# Altium integrated library PD_SMARTKEY_EMN-EVAN_V2.0.IntLib: 50 symbols
Pins are listed as number, name and electrical type; pins without a type are passive.

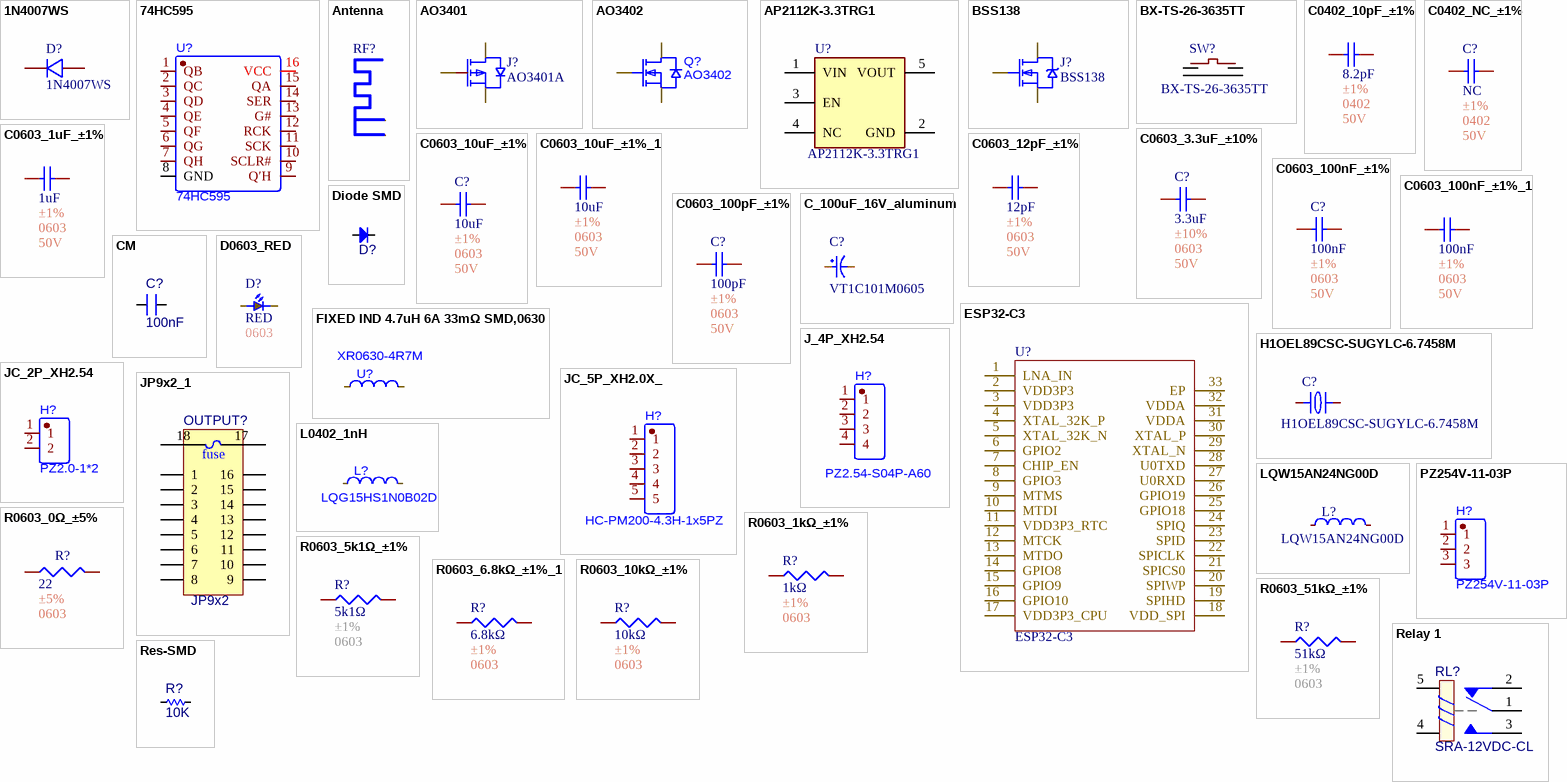
[diagram p0: symbols 1N4007WS to Res-SMD]

## 1N4007WS
designator D?
DIODE STANDARD 1kV 1A SOD-323; Manufacturer: MDD(Microdiode Semiconductor); Mfr. Part #: 1N4007WS; LCSC Part #: C193404; Package: SOD-323; Link: https://www.lcsc.com/product-detail/C193404.html?utm_source=chatgpt.com
footprint 1N4007WS (DIODE STANDARD 1kV 1A SOD-323)
pins: 1 K, 2 A

## 74HC595
designator U?
8-bit CMOS shift register; Manufacturer: GR; MPN: 74HC595; LCSC Part #: C18164493; Packaging: SOP-16; Link: https://www.lcsc.com/product-detail/C18164493.html?s_z=n_q_x_74hc595&spm=wm.ssy.em.0.tz&lcsc_vid=FlRcBlcDRFNZAlJQT1RZBVJSEVFcX11eRVQPBFEHFgAxVlNeQVReV1NeQFVfUzsOAxUeFF5JWBYZEEoKFBINSQcJGk4%3D
footprint 74HC595 (8-bit CMOS shift register)
pins: 1 QB, 2 QC, 3 QD, 4 QE, 5 QF, 6 QG, 7 QH, 8 GND, 9 Q′H, 10 SCLR#, 11 SCK, 12 RCK, 13 G#, 14 SER, 15 QA, 16 VCC

## Antenna
designator RF?
footprint 2.4GHZ-50OHMS_v1.1
pins: 1, 2

## AO3401
designator J?, comment AO3401A
30V 4A 900mV@250uA 1 P-Channel SOT-23 MOSFETs ROHS; Manufacturer: AOS; Mfr. Part #: AO3401A; LCSC Part #: C15127; Package: SOT-23; Current - Continuous Drain(Id): 4A; Drain to Source Voltage: 30V; Link: https://www.lcsc.com/product-detail/C15127.html?s_z=n_AO3401
footprint AO3401
pins: 1 G, 1 G, 1 G, 1 G, 1 G, 1 G, 1 G, 1 G, 1 G, 1 G, 1 G, 1 G, 1 G, 1 G, 1 G, 1 G, 2 S, 2 S, 2 S, 2 S, 2 S, 2 S, 2 S, 2 S, 2 S, 2 S, 2 S, 2 S, 2 S, 2 S, 2 S, 2 S, 3 D, 3 D, 3 D, 3 D, 3 D, 3 D, 3 D, 3 D, 3 D, 3 D, 3 D, 3 D, 3 D, 3 D, 3 D, 3 D

## AO3402
designator Q?
MOSFET N-CH 30V SOT-23; Manufacturer: AOS; MPN: AO3402; LCSC Part #: C14385; Packaging: SOT-23; Link: https://www.lcsc.com/product-detail/C14385.html?s_z=n_q_ao3402&spm=wm.fly.bg.0.xh&lcsc_vid=FFlaVlZURFlbX1EAE1lbUlZfQwdeBlBRQ1VZBFdQQwUxVlNeRVZXVF1QQ1BYXzsOAxUeFF5JWBYZEEoKFBINSQcJGk4NBhADEA4cHktXR1FWSQwSGg0%3D
footprint AO3402 (MOSFET N-CH 30V SOT-23)
pins: 1 G, 1 G, 1 G, 1 G, 2 S, 2 S, 2 S, 2 S, 3 D, 3 D, 3 D, 3 D

## AP2112K-3.3TRG1
designator U?
Linear Voltage Regulator IC Positive Fixed 1 Output 600mA SOT23-5; MF: Diodes Inc.; Value: *; Purchase-URL: https://pricing.snapeda.com/search/part/AP2112K-3.3TRG1/?ref=eda; Package: SOT-753 Diodes Inc.; Availability: In Stock; Check_prices: https://www.snapeda.com/parts/AP2112K-3.3TRG1/Diodes+Inc./view-part/?ref=eda; Price: None; SnapEDA_Link: https://www.snapeda.com/parts/AP2112K-3.3TRG1/Diodes+Inc./view-part/?ref=snap; MP: AP2112K-3.3TRG1
footprint SOT23-5 (SOT23, 5-Leads, Body 3.0x3.0mm (max), Pitch 0.95mm, IPC Medium Density)
pins: 1 VIN (power), 2 GND (power), 3 EN, 4 NC, 5 VOUT (power)

## BSS138
designator J?
MOSFET N-CH 50V 0.22A SOT-23; Manufacturer: onsemi; Mfr. Part #: BSS138; LCSC Part #: C52895; Package: SOT-23; Link: https://www.lcsc.com/product-detail/C52895.html?s_z=n_q_x_bss138&spm=wm.ssy.em.0.tz&lcsc_vid=FFlaVlZURFlbX1EAE1lbUlZfQwdeBlBRQ1VZBFdQQwUxVlNeQlVeVVZeQlBWUTsOAxUeFF5JWBYZEEoKFBINSQcJGk4eFQsCAgIaSgADAwAHC0slTlBeX1dIHxUDCw%3D%3D
footprint BSS138 (MOSFET N-CH 50V 0.22A SOT-23)
pins: 1 G, 2 S, 3 D

## BX-TS-26-3635TT
designator SW?
Without bracket 50mA 3.6mm 100000 Times 260gf 12V 3.5mm 3.5mm Rectangle button Standing paste SPST SMD,3x6mm Tactile Switches ROHS; Manufacturer: Bossie; Manufacture Part Number: C18078107; Packaging: Cut Tape; Link: https://www.lcsc.com/product-detail/Tactile-Switches_Bossie-BX-TS-26-3635TT_C18078107.html?s_z=n_tactile; Package: SMD,3x6mm
footprint BX-TS-26-3635TT
pins: 1, 1, 1, 1, 1, 1, 1, 1, 1, 1, 1, 1, 1, 1, 1, 1, 1, 1, 1, 1, 1, 1, 1, 1, 1, 1, 1, 1, 1, 1, 1, 1, 2, 2, 2, 2, 2, 2, 2, 2, 2, 2, 2, 2, 2, 2, 2, 2, 2, 2, 2, 2, 2, 2, 2, 2, 2, 2, 2, 2, 2, 2, 2, 2, 3, 3, 3, 3, 3, 3, 3, 3, 3, 3, 3, 3, 3, 3, 3, 3, 3, 3, 3, 3, 3, 3, 3, 3, 3, 3, 3, 3, 3, 3, 3, 3, 4, 4, 4, 4, 4, 4, 4, 4, 4, 4, 4, 4, 4, 4, 4, 4, 4, 4, 4, 4, 4, 4, 4, 4, 4, 4, 4, 4, 4, 4, 4, 4

## C0402_10pF_±1%
designator C?, comment 8.2pF  Tolerance: ±1%  Package: 0402  Voltage Rating: 50V
50V 10pF NP0 ±1% 0402 Multilayer Ceramic Capacitors MLCC - SMD/SMT ROHS; Manufacturer: YAGEO; Mfr. Part #: CC0402FRNPO9BN100; LCSC Part #: C513681; Link: https://www.lcsc.com/product-detail/C513681.html?s_z=n_capital%2520yageo%252010pF%25200402; Capacitance: 10pF
footprint C0402
pins: 1, 2

## C0402_NC_±1%
designator C?, comment NC  Tolerance: ±1%  Package: 0402  Voltage Rating: 50V
Manufacturer: YAGEO; Mfr. Part #: CC0402FRNPO9BN100; Capacitance: 1uF; LCSC Part #: C513681; Link: https://www.lcsc.com/product-detail/C513681.html?s_z=n_capital%2520yageo%252010pF%25200402
footprint C0402
pins: 1, 2

## C0603_1uF_±1%
designator C?, comment 1uF  Tolerance: ±1%  Package: 0603  Voltage Rating: 50V
50V 10pF NP0 ±1% 0402 Multilayer Ceramic Capacitors MLCC - SMD/SMT ROHS; Manufacturer: YAGEO; Mfr. Part #: CC0402FRNPO9BN100; LCSC Part #: C513681; Link: https://www.lcsc.com/product-detail/C513681.html?s_z=n_capital%2520yageo%252010pF%25200402; Capacitance: 1uF
footprint Model Name (Model Description)
footprint C0603
pins: 1, 2

## C0603_3.3uF_±10%
designator C?, comment 3.3uF  Tolerance: ±10%  Package: 0603  Voltage Rating: 50V
Manufacturer: muRata; Mfr. Part #: GCJ188C70J335KE02D; Temperature Coefficient: X7S; LCSC Part #: C710616; Link: https://www.lcsc.com/product-detail/C710616.html?s_z=n_Capita%25200603%25203.3uF%2520yageo; Capacitance: 3.3uF
footprint C0603
pins: 1, 2

## C0603_10uF_±1%
designator C?, comment 10uF  Tolerance: ±1%  Package: 0603  Voltage Rating: 50V
Manufacturer: YAGEO; Mfr. Part #: CC0402FRNPO9BN100; LCSC Part #: C513681; Link: https://www.lcsc.com/product-detail/C513681.html?s_z=n_capital%2520yageo%252010pF%25200402; Capacitance: 10uF
footprint C0603
pins: 1, 2

## C0603_10uF_±1%_1
designator C?, comment 10uF  Tolerance: ±1%  Package: 0603  Voltage Rating: 50V
50V 10pF NP0 ±1% 0402 Multilayer Ceramic Capacitors MLCC - SMD/SMT ROHS; Manufacturer: YAGEO; Mfr. Part #: CC0402FRNPO9BN100; LCSC Part #: C513681; Link: https://www.lcsc.com/product-detail/C513681.html?s_z=n_capital%2520yageo%252010pF%25200402; Capacitance: 10uF
footprint C0603
pins: 1, 2

## C0603_12pF_±1%
designator C?, comment 12pF  Tolerance: ±1%  Package: 0603  Voltage Rating: 50V
50V 10pF NP0 ±1% 0402 Multilayer Ceramic Capacitors MLCC - SMD/SMT ROHS; Manufacturer: YAGEO; Mfr. Part #: CC0402FRNPO9BN100; LCSC Part #: C513681; Link: https://www.lcsc.com/product-detail/C513681.html?s_z=n_capital%2520yageo%252010pF%25200402; Capacitance: 12pF
footprint C0603
pins: 1, 2

## C0603_100nF_±1%
designator C?, comment 100nF  Tolerance: ±1%  Package: 0603  Voltage Rating: 50V
Manufacturer: YAGEO; Mfr. Part #: CC0402FRNPO9BN100; LCSC Part #: C513681; Link: https://www.lcsc.com/product-detail/C513681.html?s_z=n_capital%2520yageo%252010pF%25200402; Capacitance: 100nF
footprint C0603
pins: 1, 2

## C0603_100nF_±1%_1
designator C?, comment 100nF  Tolerance: ±1%  Package: 0603  Voltage Rating: 50V
50V 10pF NP0 ±1% 0402 Multilayer Ceramic Capacitors MLCC - SMD/SMT ROHS; Manufacturer: YAGEO; Mfr. Part #: CC0402FRNPO9BN100; LCSC Part #: C513681; Link: https://www.lcsc.com/product-detail/C513681.html?s_z=n_capital%2520yageo%252010pF%25200402; Capacitance: 100nF
footprint C0603
pins: 1, 2

## C0603_100pF_±1%
designator C?, comment 100pF  Tolerance: ±1%  Package: 0603  Voltage Rating: 50V
Manufacturer: YAGEO; Mfr. Part #: CC0402FRNPO9BN100; LCSC Part #: C513681; Link: https://www.lcsc.com/product-detail/C513681.html?s_z=n_capital%2520yageo%252010pF%25200402; Capacitance: 100pF
footprint C0603
pins: 1, 2

## C_100uF_16V_aluminum
designator C?, comment VT1C101M0605
100uF 16V ±20% 63mA@120Hz SMD,D6.3xL5.4mm Aluminum Electrolytic Capacitors RoHS; Manufacturer: ROQANG; Key Attributes: CAP ALUM 100uF ±20% 16V SMD; Mfr. Part #: VT1C101M0605; LCSC Part #: C90273; Package: SMD,D6.3xL5.4mm; Link: https://www.lcsc.com/product-detail/C90273.html?s_z=n_capital%2520100uf%2520aluminum
footprint C_100uF_16V_Aluminum (100uF 16V ±20% 63mA@120Hz SMD,D6.3xL5.4mm Aluminum Electrolytic Capacitors RoHS)
pins: 1, 2

## CM
designator C?, comment 100nF
Cap SMD; Value: 103
footprint SM-0805 (Compoment SMD 80x50mil)
footprint C-0603 (Chip Capacitor; Body 1.6 x 0.8 mm (LxW typ))
footprint CAP-1206
footprint CAP-0402
pins: 1, 2

## D0603_RED
designator D?, comment RED  Package: 0603
25mcd~40mcd Water Clear -40℃~+85℃ 624nm Red 120° 60mW 0402 LED Indication - Discrete ROHS; Manufacturer: XINGLIGHT; Mfr. Part #: XL-1005UGC; Voltage - Forward(Vf): 3V; LCSC Part #: C965793; Power(Watts): 60mW; Link: https://www.lcsc.com/product-detail/C136765.html?s_z=n_LED%25200402%2520RED; Illumination Color: RED
footprint LED0603
pins: 1, 2

## Diode SMD
designator D?, comment 1N5819  (value not drawn)
Default Diode; Code - JEDEC: DO-214-AB; Value: 1N5007; Published: 8-Jun-2000; Revision: July-2002: Re-released for DXP Platform.; Publisher: Altium Limited
footprint DIO-SMD-106
footprint DIO-SMD-123
footprint DIO-SMD-A
footprint DIO-SMD-B (Magnetic-Core Inductor with Winding Polarity Marking; 2 Leads)
footprint DIO-SMD-216AA (DO216AA ST-MITE)
footprint DIO-SMD-222AA (DO216AA ST-MITE)
footprint DO-214AA
footprint SOD-323
footprint SOD-123
pins: 1 A, 2 K

## ESP32-C3
designator U?
Others 160MHz QFN-32-EP(5x5) RF Transceiver Modules and Modems RoHS; Manufacturer: ESPRESSIF; LCSC Part #: C2838500; Package: QFN-32-EP(5x5); Link: https://www.lcsc.com/product-detail/C2838500.html?s_z=n_ESP32%2520C3; MPN: ESP32-C3
footprint ESP32-C3 (Others 160MHz QFN-32-EP(5x5) RF Transceiver Modules and Modems RoHS)
pins: 1 LNA_IN, 2 VDD3P3, 3 VDD3P3, 4 XTAL_32K_P, 5 XTAL_32K_N, 6 GPIO2, 7 CHIP_EN, 8 GPIO3, 9 MTMS, 10 MTDI, 11 VDD3P3_RTC, 12 MTCK, 13 MTDO, 14 GPIO8, 15 GPIO9, 16 GPIO10, 17 VDD3P3_CPU, 18 VDD_SPI, 19 SPIHD, 20 SPIWP, 21 SPICS0, 22 SPICLK, 23 SPID, 24 SPIQ, 25 GPIO18, 26 GPIO19, 27 U0RXD, 28 U0TXD, 29 XTAL_N, 30 XTAL_P, 31 VDDA, 32 VDDA, 33 EP

## FIXED IND 4.7uH 6A 33mΩ SMD,0630
designator U?, comment XR0630-4R7M
FIXED IND 4.7uH 6A 33mΩ SMD,0630; Manufacturer: XR; MPN: XR0630-4R7M; LCSC Part #: C5307631; Packaging: SMD,7x6.6mm; Link: https://www.lcsc.com/product-detail/C5307631.html?s_z=n_q_t_INDUCTOR%25200630&spm=wm.fly.bg.0.xh___wm.ssy.tc.0.tz&lcsc_vid=FFlaVlZURFlbX1EAE1lbUlZfQwdeBlBRQ1VZBFdQQwUxVlNeRlRfU1ZRQlNZXzsOAxUeFF5JWBYZEEoKFBINSQcJGk4eFQsCAgIaSgADAwAHC0slQ1ZXV1NWWQkaCgg%3D
footprint SMD,7x6.6mm (FIXED IND 4.7uH 6A 33mO SMD,0630)
pins: 1 S, 2 F

## H1OEL89CSC-SUGYLC-6.7458M
designator C?
CRYSTAL 6.7458MHz 20pF TH; Manufacturer: YXC Crystal Oscillators; Mfr. Part #: H1OEL89CSC-SUGYLC-6.7458M; LCSC Part #: C22391840; Package: HC-49S; Link: https://easyeda.com/editor#libs=&07310eedce5a43c98c4161eafcc9aef0|!a5e1c98a3bb64075832f1f5ba4fc3881,id=!7d444265956f4181be11c4ee9d4cfc6d|!71450838f2174409b429143f6acc9d2a|!539cb70c4f7e477780d20a73162bc53c|!a801549ddf8f431796761cd071417387|!b8fcc2de93bf4aef8189d3c834354c07|!02e7df449347415b8f27e40b853d91f5|!742b0369488b44bb9df5543ea16c4b6c|!89f5280378144b629de4998ef974b6b8|!3adce28ecd244395892921b5df4468bb|!1fe0adc377c7472ba321d68db1c050fa|!1ad015d88caa41fba3ca35598852b904; Load Capacitance: 20pF
footprint H1OEL89CSC-SUGYLC-6.7458M (CRYSTAL 6.7458MHz 20pF TH)
pins: 1, 2

## J_4P_XH2.54
designator H?, comment PZ2.54-S04P-A60
1kV 1 2.54mm Pin Header 3A 2.5mm Through Hole 6mm -40℃~+105℃ 3mm Gold 4P Black 1x4P Through Hole,P=2.54mm Headers, Male Pins RoHS; Manufacturer: JXTCONN; MPN: PZ2.54-S04P-A60; LCSC Part #: C42431795; Packaging: Through Hole,P=2.54mm; Link: https://www.lcsc.com/product-detail/C42431795.html?s_z=n_q_t_header%25204%2520p&spm=wm.fly.bg.0.xh___wm.ssy.tc.0.tz&lcsc_vid=FlRcBlcDRFNZAlJQT1RZBVJSEVFcX11eRVQPBFEHFgAxVlNeQVVcV1RRRlFeUzsOAxUeFF5JWBYZEEoKFBINSQcJGk4dAgUUFAk%3D
footprint J_4P_XH2.54 (1kV 1 2.54mm Pin Header 3A 2.5mm Through Hole 6mm -40?~+105? 3mm Gold 4P Black 1x4P Through Hole,P=2.54mm Headers, Male Pins RoHS)
pins: 1, 2, 3, 4

## JC_2P_XH2.54
designator H?, comment PZ2.0-1*2
CONN HEADER 2POS 2mm SINGLE ROW TH; Manufacturer: ZHOURI; MPN: PZ2.0-1*2; LCSC Part #: C5224022; Packaging: Through Hole,P=2mm; Link: https://www.lcsc.com/product-detail/C5224022.html?utm_source=chatgpt.com
footprint JC_2P_XH2.0 (CONN HEADER 2POS 2mm SINGLE ROW TH)
pins: 1, 2

## JC_5P_XH2.0X_
designator H?, comment HC-PM200-4.3H-1x5PZ
CONN SOCKET 5POS 2mm SINGLE ROW TH; Manufacturer: Hong Cheng; MPN: HC-PM200-4.3H-1x5PZ; LCSC Part #: C22436139; Packaging: Through Hole,P=2mm; Link: https://www.lcsc.com/product-detail/C22436139.html?utm_source=chatgpt.com
footprint JC_5P_XH2.0 (CONN SOCKET 5POS 2mm SINGLE ROW TH)
pins: 1, 2, 3, 4, 5

## JP9x2_1
designator OUTPUT?, comment JP9x2
WR-PHD 2.54 mm Dual Socket Header; Manufacturer: W¨¹rth Elektronik eiSos GmbH; partNo: 61301821821; ComponentLink1 Description: Manufacturer; ComponentLink2 Description: Datasheet; NoPins: 18; Created Date: 29 March 2013; ComponentLink1URL: http://www.we-online.com; ComponentLink2URL: http://katalog.we-online.de/em/datasheet/6130xx21821.pdf; Created by: Karrer Zheng
footprint 9x2_JP200
pins: 1, 2, 3, 4, 5, 6, 7, 8, 9, 10, 11, 12, 13, 14, 15, 16, 17, 18
text: fuse

## L0402_1nH
designator L?, comment LQG15HS1N0B02D
FIXED IND 1nH 1A 70mΩ 0402; Manufacturer: muRata; MPN: LQG15HS1N0B02D; LCSC Part #: C162538; Packaging: 0402; Link: https://www.lcsc.com/product-detail/C162538.html?s_z=n_q_0402%2520inductor%25201nH&spm=wm.fly.bg.1.xh&lcsc_vid=FFlaVlZURFlbX1EAE1lbUlZfQwdeBlBRQ1VZBFdQQwUxVlNeQ1FfVlBVRFlZVjsOAxUeFF5JWBYZEEoKFBINSQcJGk4NBhADEA4cHktXRllfSQwSGg0%3D
footprint L0402_1nH (FIXED IND 1nH 1A 70mO 0402)
pins: 1, 2

## LQW15AN24NG00D
designator L?
FIXED IND 24nH 280mA 520mΩ 0402; Manufacturer: muRata; Mfr. Part #: LQW15AN24NG00D; LCSC Part #: C167472; Package: 0402; Link: https://www.lcsc.com/product-detail/C167472.html?s_z=n_q_inductor%252024nH%25200402&spm=wm.fly.bg.0.xh&lcsc_vid=FlRcBlcDRFNZAlJQT1RZBVJSEVFcX11eRVQPBFEHFgAxVlNeQVRfUFJVQVNZUzsOAxUeFF5JWBYZEEoKFBINSQcJGk4eFQsCAgIaSgADAwAHC0slRlhdU1RSWQkaCgg%3D
footprint LQW15AN24NG00D (FIXED IND 24nH 280mA 520mO 0402)
pins: 1, 2

## PZ254V-11-03P
designator H?
CONN HEADER 3POS 2.54mm SINGLE ROW TH; Manufacturer: XFCN; MPN: PZ254V-11-03P; LCSC Part #: C2937625; Packaging: Through Hole,P=2.54mm; Link: https://www.lcsc.com/product-detail/C2937625.html?s_z=n_q_t_header%25203%2520Position&spm=wm.fly.bg.3.xh___wm.ssy.tc.0.tz&lcsc_vid=FlRcBlcDRFNZAlJQT1RZBVJSEVFcX11eRVQPBFEHFgAxVlNeQVVaV1BSRFVfXjsOAxUeFF5JWBYZEEoKFBINSQcJGk4dAgUUFAk%3D
footprint PZ254V-11-03P (CONN HEADER 3POS 2.54mm SINGLE ROW TH)
pins: 1, 2, 3

## R0603_0Ω_±5%
designator R?, comment 22  Tolerance: ±5%  Package: 0603
100mW Thick Film Resistor 75V ±5% 0Ω 0603 Chip Resistor - Surface Mount ROHS; Manufacturer: YAGEO; Mfr. Part #: RC0603JR-070RL; Key Attributes: RES 0Ω ±5% 100mW 0603; LCSC Part #: C95177; Resistance: 0Ω; Link: https://www.lcsc.com/product-detail/C138066.html?s_z=n_resistor%25200402%252010R
footprint R0603
pins: 1, 2

## R0603_1kΩ_±1%
designator R?, comment 1kΩ  Tolerance: ±1%  Package: 0603
62.5mW Thick Film Resistor 50V ±1% ±200ppm/℃ 10Ω 0402 Chip Resistor - Surface Mount ROHS; Manufacturer: YAGEO; Mfr. Part #: RC0402FR-0710RL; LCSC Part #: C138066; Resistance: 1kΩ; Link: https://www.lcsc.com/product-detail/C138066.html?s_z=n_resistor%25200402%252010R
footprint R0603
pins: 1, 2

## R0603_5k1Ω_±1%
designator R?, comment 5k1Ω  Tolerance: ±1%  Package: 0603
100mW Thick Film Resistor 75V ±100ppm/℃ ±1% 5.1kΩ 0603 Chip Resistor - Surface Mount ROHS; Manufacturer: FOJAN; Mfr. Part #: FRC0603F5101TS; Key Attributes: RES 5.1kΩ ±1% 100mW 0603; LCSC Part #: C2907044; Link: https://www.lcsc.com/product-detail/C2907044.html?s_z=n_5k1%25200603; Resistance: 5k1Ω
footprint R0603
pins: 1, 2

## R0603_6.8kΩ_±1%_1
designator R?, comment 6.8kΩ  Tolerance: ±1%  Package: 0603
6.8k; Manufacturer: YAGEO; Mfr. Part #: RC0402FR-0710RL; LCSC Part #: C138066; Resistance: 6.8kΩ; Link: https://www.lcsc.com/product-detail/C138066.html?s_z=n_resistor%25200402%252010R
footprint R0603
pins: 1, 1, 2, 2

## R0603_10kΩ_±1%
designator R?, comment 10kΩ  Tolerance: ±1%  Package: 0603
62.5mW Thick Film Resistor 50V ±1% ±200ppm/℃ 10Ω 0402 Chip Resistor - Surface Mount ROHS; Manufacturer: YAGEO; Mfr. Part #: RC0402FR-0710RL; LCSC Part #: C138066; Resistance: 10kΩ; Link: https://www.lcsc.com/product-detail/C138066.html?s_z=n_resistor%25200402%252010R
footprint R0603
pins: 1, 2

## R0603_51kΩ_±1%
designator R?, comment 51kΩ  Tolerance: ±1%  Package: 0603
100mW Thick Film Resistor 75V ±100ppm/℃ ±1% 51kΩ 0603 Chip Resistor - Surface Mount ROHS; Manufacturer: FOJAN; Mfr. Part #: FRC0603F5101TS; Key Attributes: RES 5.1kΩ ±1% 100mW 0603; LCSC Part #: C2907044; Link: https://www.lcsc.com/product-detail/C2907044.html?s_z=n_5k1%25200603; Resistance: 51kΩ
footprint R0603
pins: 1, 2

## Relay 1
designator RL?, comment SRA-12VDC-CL
Relay SPDT,10A - 12VDC 5 Pin; Value: Relay SPDT, 10A, 12V
footprint RL_SPDT_10A (Relay SPDT, 5 pin, 10A,W 650mil, L 800mil, H 800mil)
footprint YL318-DC12V-C
pins: 1, 2, 3, 4, 5

## Res-SMD
designator R?, comment 10K
Resistor; Manufacturer: Generic Components; Class: Passive; Published: 08/06/2000; Publisher: Altium Hobart Technology Centre
footprint RES-SMD-0101
footprint RES-SMD-0201
footprint RES-SMD-0603
footprint RES-SMD-0805
footprint RES-SMD-1206
footprint RES-SMD-1210 (Chip Capacitor, Body 3.2x2.5mm, IPC Medium Density)
footprint RES-SMD-1812 (Chip Capacitor, Body 3.2x2.5mm, IPC Medium Density)
footprint RES-SMD-2010 (Chip Capacitor, Body 3.2x2.5mm, IPC Medium Density)
footprint RES-SMD-2512 (Chip Capacitor, Body 3.2x2.5mm, IPC Medium Density)
footprint RES-SMD-0402
pins: 1, 2

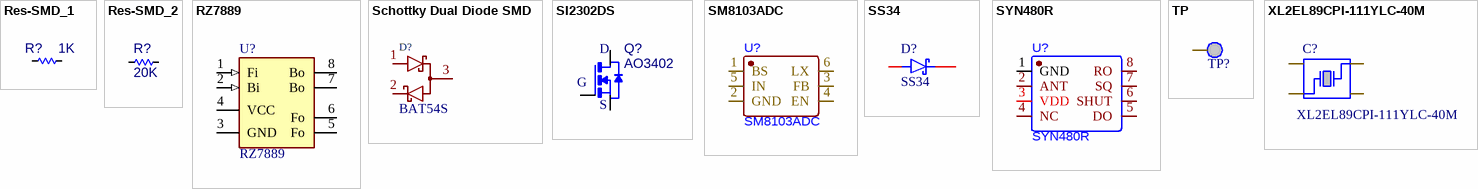
[diagram p1: symbols Res-SMD_1 to XL2EL89CPI-111YLC-40M]

## Res-SMD_1
designator R?, comment 1K
Resistor; Manufacturer: Generic Components; Class: Passive; Published: 08/06/2000; Publisher: Altium Hobart Technology Centre
footprint RES-SMD-0101
footprint RES-SMD-0201
footprint RES-SMD-0603
footprint RES-SMD-0805
footprint RES-SMD-1206
footprint RES-SMD-1210 (Chip Capacitor, Body 3.2x2.5mm, IPC Medium Density)
footprint RES-SMD-1812 (Chip Capacitor, Body 3.2x2.5mm, IPC Medium Density)
footprint RES-SMD-2010 (Chip Capacitor, Body 3.2x2.5mm, IPC Medium Density)
footprint RES-SMD-2512 (Chip Capacitor, Body 3.2x2.5mm, IPC Medium Density)
footprint RES-SMD-0402
pins: 1, 2

## Res-SMD_2
designator R?, comment 20K
Resistor; Manufacturer: Generic Components; Class: Passive; Published: 08/06/2000; Publisher: Altium Hobart Technology Centre
footprint RES-SMD-0101
footprint RES-SMD-0201
footprint RES-SMD-0603
footprint RES-SMD-0805
footprint RES-SMD-1206
footprint RES-SMD-1210 (Chip Capacitor, Body 3.2x2.5mm, IPC Medium Density)
footprint RES-SMD-1812 (Chip Capacitor, Body 3.2x2.5mm, IPC Medium Density)
footprint RES-SMD-2010 (Chip Capacitor, Body 3.2x2.5mm, IPC Medium Density)
footprint RES-SMD-2512 (Chip Capacitor, Body 3.2x2.5mm, IPC Medium Density)
footprint RES-SMD-0402
pins: 1, 2

## RZ7889
designator U?
RZ7889 is a monolithic IC designed for driving bi-directional DC motor
footprint SO8
pins: 1 Fi (in), 2 Bi (in), 3 GND, 4 VCC, 5 Fo, 6 Fo, 7 Bo, 8 Bo

## Schottky Dual Diode SMD
designator D?, comment BAT54S
Diode 30V 0.2A Surface Mount SOT-23; ki_keywords: Dual Schottky Diode Series; ki_description: Dual Schottky Diode in Series; Datasheet: https://diotec.com/request/datasheet/bat54.pdf
footprint SOT23-3
pins: 1 A, 2 C, 3

## SI2302DS
designator Q?, comment AO3402
N-Channel 20V 2.5A _Tc_ 830mW _Tc_ Surface Mount TO-236AB _SOT23_; MP: SI2302DS; MF: NXP Semiconductors; SnapEDA_Link: https://www.snapeda.com/parts/SI2302DS/NXP%20Semiconductors/view-part/4701514/?ref=snap; Availability: Unavailable; Price: None; Value: *; Package: None
footprint SOT23-3
pins: 1 G, 2 S, 3 D

## SM8103ADC
designator U?
High Efficiency, 3.0A, 18V Input Synchronous Step Down Regulator; Manufacturer: Silergy; MPN: SM8103ADC; LCSC Part #: C479070; Packaging: TSOT-23-6; Link: https://www.lcsc.com/product-detail/C479070.html?s_z=s_p_SM8103ADC&spm=wm.fly.bg.0.xh&lcsc_vid=FFlaVlZURFlbX1EAE1lbUlZfQwdeBlBRQ1VZBFdQQwUxVlNeRlReUVRTQVFeUDsOAxUeFF5JWBYZEEoKFBINSQcJGk4dAgUUFAk%3D
footprint TSOT-23-6 (High Efficiency, 3.0A, 18V Input Synchronous Step Down Regulator)
pins: 1 BS, 2 GND, 3 FB, 4 EN, 5 IN, 6 LX

## SS34
designator D?
40V Independent 3A 550mV@3A SMA(DO-214AC) Schottky Diodes ROHS; Manufacturer: MDD(Microdiode Semiconductor); Mfr. Part #: SS34; LCSC Part #: C8678; Package: SMA(DO-214AC); Voltage - DC Reverse(Vr): 40V; Current - Rectified: 3A; Link: https://www.lcsc.com/product-detail/C8678.html?s_z=n_SS34
footprint SS34
pins: 1, 2

## SYN480R
designator U?
433/315 MHz wireless receiver chips; Manufacturer: JSMSEMI; MPN: SYN480R; LCSC Part #: C916347; Packaging: SOP-8; Link: https://www.lcsc.com/product-detail/C916347.html?s_z=n_q_SYN480R&spm=wm.fly.bg.0.xh&lcsc_vid=FlRcBlcDRFNZAlJQT1RZBVJSEVFcX11eRVQPBFEHFgAxVlNeQVVdUFxQR1VXUDsOAxUeFF5JWBYZEEoKFBINSQcJGk4eFQsCAgIaSgADAwAHC0sRHhMLShAJWgMBBhYCWgIBCQoDFBUBFTsLEgYPFBAHBUwUH0kODlNDV0lVBxYaOCdRQ1NXUlNWWQkaCgg%3D
footprint SYN480R (433/315 MHz wireless receiver chips)
pins: 1 GND, 2 ANT, 3 VDD, 4 NC, 5 DO, 6 SHUT, 7 SQ, 8 RO

## TP
designator TP?  (value not drawn)
footprint TP
pins: 1

## XL2EL89CPI-111YLC-40M
designator C?
Crystal Oscillator 15pF SMD3225-4P Crystals RoHS; Manufacturer: YXC Crystal Oscillators; Mfr. Part #: XL2EL89CPI-111YLC-40M; LCSC Part #: C5444549; Package: SMD3225-4P; Link: https://www.lcsc.com/product-detail/C5444549.html?s_z=n_oscillator; Key Attributes: Crystal Oscillator 15pF SMD3225-4P Crystals RoHS
footprint XL2EL89CPI-111YLC-40M (CRYSTAL 40MHz 15pF SMD)
pins: 1, 2, 3, 4